# Altium integrated library Linear Technology Power Management Switching Regulator LTC1174-LTC3901.IntLib: 2647 symbols (part 210 of 364)
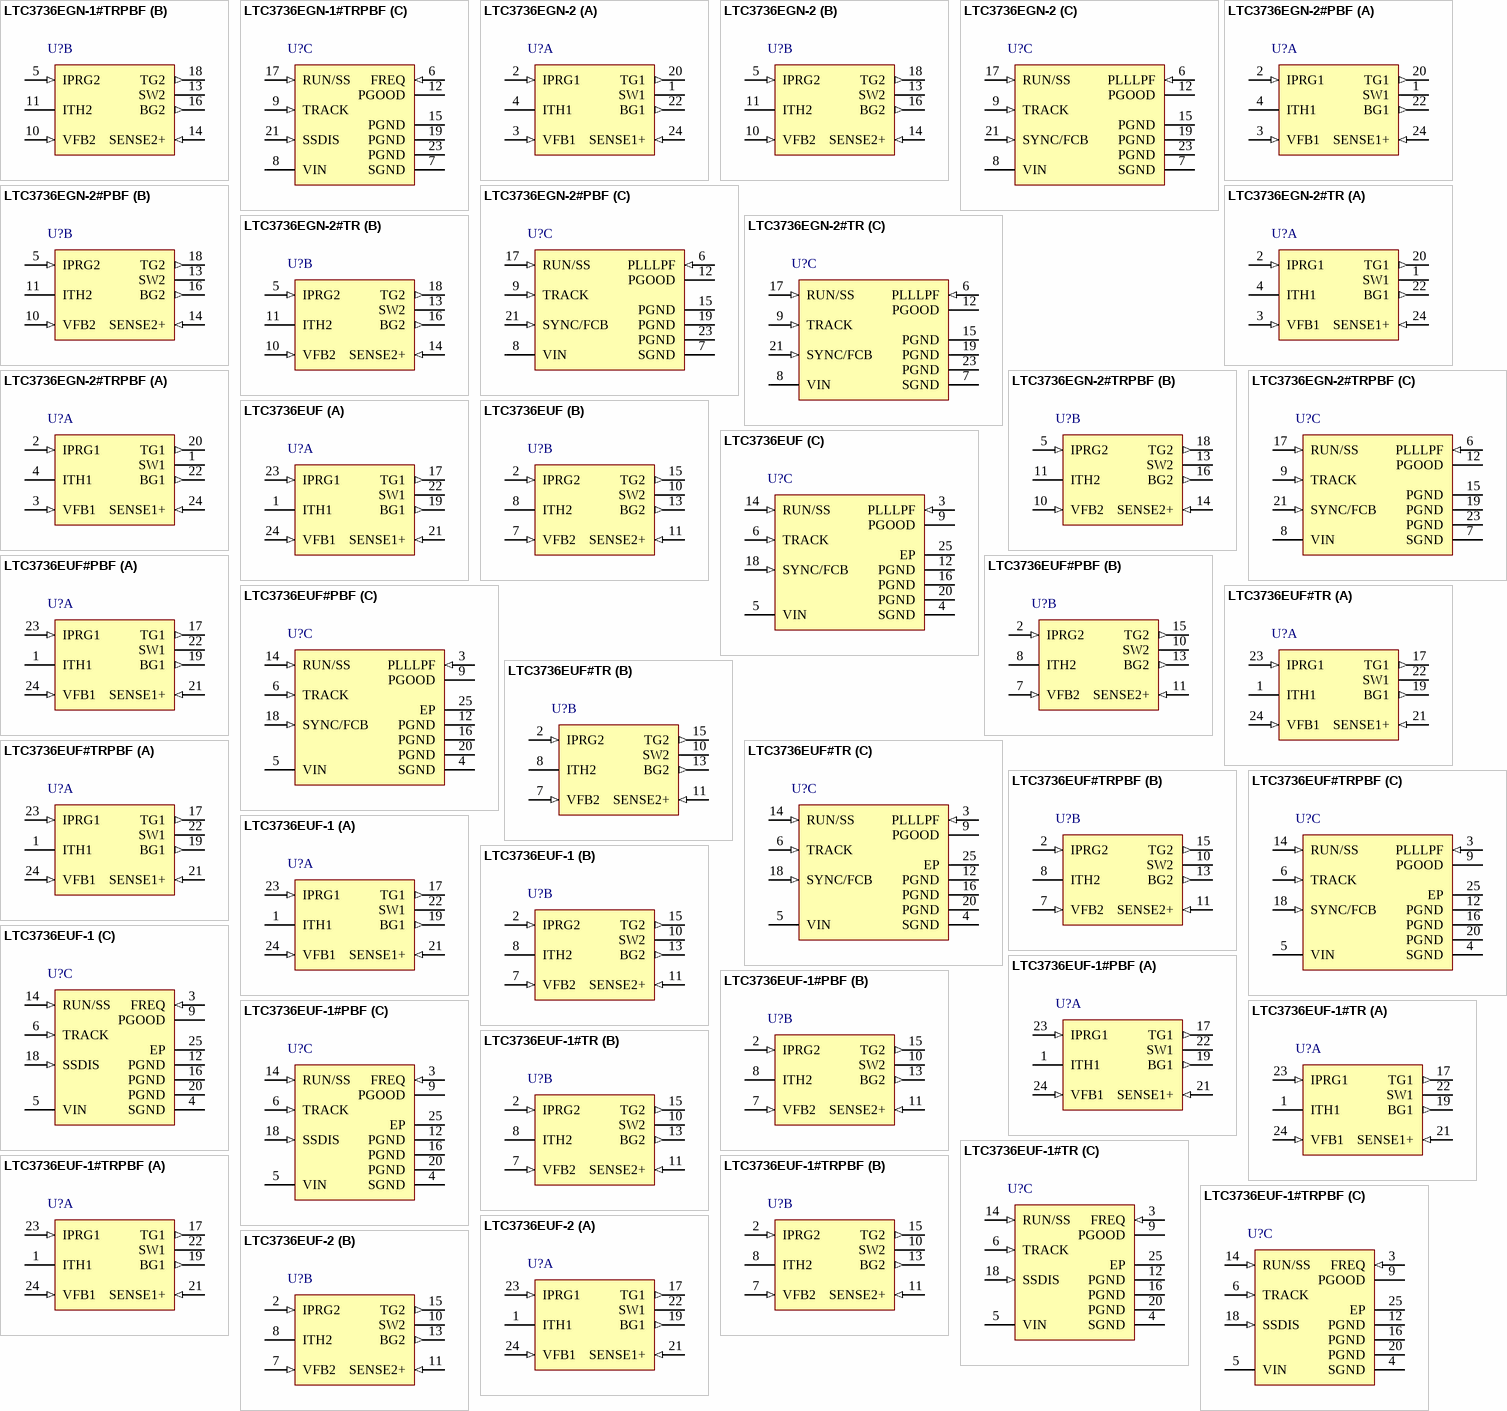
[diagram p224: symbols LTC3736EGN-1#TRPBF to LTC3736EUF-2]

## LTC3736EUF-1#TR
designator U?
Dual 2-Phase, No Rsense Synchronous Controller with Spread Spectrum, 24-pin QFN (UF24), -40 to 85 degC, Tape and Reel; Manufacturer: Linear Technology; PartNumber: LTC3736EUF-1#TR; Number of Outputs: 2; PackageVersion: Rev. B, 02/2012; PackageReference: UF24; PackageDescription: 24-Pin Plastic QFN, Body 4 x 4 mm, Pitch 0.5 mm; Supplier 1: Digi-Key; Supplier Part Number 1: LTC3736EUF-1#TR-ND; Packing: Tape and Reel; RoHS: FALSE; Mounting Technology: Surface Mount; Code_JEDEC: MO-220; ComponentLink1Description: Manufacturer URL; ComponentLink1URL: http://www.linear.com/; ComponentLink2Description: Datasheet; ComponentLink2URL: http://cds.linear.com/docs/en/datasheet/37361f.pdf; ComponentLink3Description: Package Specification; ComponentLink3URL: http://cds.linear.com/docs/en/packaging/%28UF24%29%20QFN%2005-08-1697%20Rev%20B.pdf
footprint LT-UF-24_N (QFN, 24-Leads, Body 4.1x4.1mm, Pitch 0.5mm, Thermal Pad 2.45x2.45mm, IPC Medium Density)
footprint LT-UF-24_L (QFN, 24-Leads, Body 4.1x4.1mm, Pitch 0.5mm, Thermal Pad 2.45x2.45mm, IPC High Density)
footprint LT-UF-24_M (QFN, 24-Leads, Body 4.1x4.1mm, Pitch 0.5mm, Thermal Pad 2.45x2.45mm, IPC Low Density)
part A pins: 1 ITH1 "Current Threshold and Error Amplifier Compensation Point. Nominal operating range on these pins is from 0.7V to 2V. The voltage on these pins determines the threshold of the main current comparator.", 17 TG1 (out) "Top (PMOS) Gate Drive Output. These pins drive the gates of the external P-channel MOSFETs. These pins have an output swing from PGND to SENSE+.", 19 BG1 (out) "Bottom (NMOS) Gate Drive Output. These pins drive the gates of the external N-channel MOSFETs. These pins have an output swing from PGND to SENSE+.", 21 SENSE1+ (in) "Positive Input to Differential Current Comparator. Also powers the gate drivers. Normally connected to the source of the external P-channel MOSFET.", 22 SW1 "Switch Node Connection to Inductor. Also the negative input to differential peak current comparator and an input to the reverse current comparator. Normally connected to the drain of the external P-channel MOSFETs, the drain (See Datasheet)", 23 IPRG1 (in) "Three-State Pins to Select Maximum Peak Sense Voltage Threshold. These pins select the maximum allowed voltage drop between the SENSE+ and SW pins (i.e., the maximum allowed drop across the external P-channel MOSFET) for (See Datasheet)", 24 VFB1 (in) "Feedback Pins. Receives the remotely sensed feedback voltage for its controller from an external resistor divider across the output"
part B pins: 2 IPRG2 (in) "Three-State Pins to Select Maximum Peak Sense Voltage Threshold. These pins select the maximum allowed voltage drop between the SENSE+ and SW pins (i.e., the maximum allowed drop across the external P-channel MOSFET) for (See Datasheet)", 7 VFB2 (in) "Feedback Pins. Receives the remotely sensed feedback voltage for its controller from an external resistor divider across the output", 8 ITH2 "Current Threshold and Error Amplifier Compensation Point. Nominal operating range on these pins is from 0.7V to 2V. The voltage on these pins determines the threshold of the main current comparator.", 10 SW2 "Switch Node Connection to Inductor. Also the negative input to differential peak current comparator and an input to the reverse current comparator. Normally connected to the drain of the external P-channel MOSFETs, the drain (See Datasheet)", 11 SENSE2+ (in) "Positive Input to Differential Current Comparator. Also powers the gate drivers. Normally connected to the source of the external P-channel MOSFET.", 13 BG2 (out) "Bottom (NMOS) Gate Drive Output. These pins drive the gates of the external N-channel MOSFETs. These pins have an output swing from PGND to SENSE+.", 15 TG2 (out) "Top (PMOS) Gate Drive Output. These pins drive the gates of the external P-channel MOSFETs. These pins have an output swing from PGND to SENSE+."
part C pins: 3 FREQ (in) "Frequency Filter and Adjust Pin. Normally, when spread spectrum operation is enabled (SSDIS = GND), a capacitor (1nF to 4.7nF) is connected from this pin to SGND or VIN to filter and smooth the changes in frequency of the (See Datasheet)", 4 SGND (power) "Small-Signal Ground. This pin serves as the ground connection for most internal circuits.", 5 VIN (power) "Chip Signal Power Supply. This pin powers the entire chip except for the gate drivers. Externally filtering this pin with a lowpass RC network (e.g., R = 10ohm, C = 1uF) is suggested to minimize noise pickup, especially in (See Datasheet)", 6 TRACK (in) "Tracking Input for Second Controller. Allows the start-up of VOUT2 to track that of VOUT1 according to a ratio established by a resistor divider on VOUT1 connected to the TRACK pin. For one-to-one tracking of VOUT1 and VOUT2 (See Datasheet)", 9 PGOOD (oc) "Power Good Output Voltage Monitor Open-Drain Logic Output. This pin is pulled to ground when the voltage on either feedback pin (VFB1, VFB2) is not within +/-13.3% of its nominal set point.", 12 PGND (power) "Power Ground. These pins serve as the ground connection for the gate drivers and the negative input to the reverse current comparators.", 14 RUN/SS (in) "Run Control Input and Optional External Soft-Start Input. Forcing this pin below 0.65V shuts down the chip (both channels). Driving this pin to VIN or releasing this pin enables the chip, using the chip’s interna(See Datasheet)", 16 PGND (power) "Power Ground. These pins serve as the ground connection for the gate drivers and the negative input to the reverse current comparators.", 18 SSDIS (in) "This pin performs three functions: 1) auxiliary winding feedback input, 2) external clock synchronization input for phase-locked loop, and 3) pulse-skipping operation or forced continuous mode select. For auxiliary winding (See Datasheet)", 20 PGND (power) "Power Ground. These pins serve as the ground connection for the gate drivers and the negative input to the reverse current comparators.", 25 EP (power) "The Exposed Pad must be soldered to PCB ground."

## LTC3736EUF-1#TRPBF
designator U?
Dual 2-Phase, No Rsense Synchronous Controller with Spread Spectrum, 24-pin QFN (UF24), -40 to 85 degC, Pb-Free, Tape and Reel; Manufacturer: Linear Technology; PartNumber: LTC3736EUF-1#TRPBF; Number of Outputs: 2; PackageVersion: Rev. B, 02/2012; PackageReference: UF24; PackageDescription: 24-Pin Plastic QFN, Body 4 x 4 mm, Pitch 0.5 mm; Supplier 1: Digi-Key; Supplier Part Number 1: LTC3736EUF-1#TRPBF-ND; Packing: Tape and Reel; RoHS: TRUE; Mounting Technology: Surface Mount; Code_JEDEC: MO-220; ComponentLink1Description: Manufacturer URL; ComponentLink1URL: http://www.linear.com/; ComponentLink2Description: Datasheet; ComponentLink2URL: http://cds.linear.com/docs/en/datasheet/37361f.pdf; ComponentLink3Description: Package Specification; ComponentLink3URL: http://cds.linear.com/docs/en/packaging/%28UF24%29%20QFN%2005-08-1697%20Rev%20B.pdf
footprint LT-UF-24_N (QFN, 24-Leads, Body 4.1x4.1mm, Pitch 0.5mm, Thermal Pad 2.45x2.45mm, IPC Medium Density)
footprint LT-UF-24_L (QFN, 24-Leads, Body 4.1x4.1mm, Pitch 0.5mm, Thermal Pad 2.45x2.45mm, IPC High Density)
footprint LT-UF-24_M (QFN, 24-Leads, Body 4.1x4.1mm, Pitch 0.5mm, Thermal Pad 2.45x2.45mm, IPC Low Density)
part A pins: 1 ITH1 "Current Threshold and Error Amplifier Compensation Point. Nominal operating range on these pins is from 0.7V to 2V. The voltage on these pins determines the threshold of the main current comparator.", 17 TG1 (out) "Top (PMOS) Gate Drive Output. These pins drive the gates of the external P-channel MOSFETs. These pins have an output swing from PGND to SENSE+.", 19 BG1 (out) "Bottom (NMOS) Gate Drive Output. These pins drive the gates of the external N-channel MOSFETs. These pins have an output swing from PGND to SENSE+.", 21 SENSE1+ (in) "Positive Input to Differential Current Comparator. Also powers the gate drivers. Normally connected to the source of the external P-channel MOSFET.", 22 SW1 "Switch Node Connection to Inductor. Also the negative input to differential peak current comparator and an input to the reverse current comparator. Normally connected to the drain of the external P-channel MOSFETs, the drain (See Datasheet)", 23 IPRG1 (in) "Three-State Pins to Select Maximum Peak Sense Voltage Threshold. These pins select the maximum allowed voltage drop between the SENSE+ and SW pins (i.e., the maximum allowed drop across the external P-channel MOSFET) for (See Datasheet)", 24 VFB1 (in) "Feedback Pins. Receives the remotely sensed feedback voltage for its controller from an external resistor divider across the output"
part B pins: 2 IPRG2 (in) "Three-State Pins to Select Maximum Peak Sense Voltage Threshold. These pins select the maximum allowed voltage drop between the SENSE+ and SW pins (i.e., the maximum allowed drop across the external P-channel MOSFET) for (See Datasheet)", 7 VFB2 (in) "Feedback Pins. Receives the remotely sensed feedback voltage for its controller from an external resistor divider across the output", 8 ITH2 "Current Threshold and Error Amplifier Compensation Point. Nominal operating range on these pins is from 0.7V to 2V. The voltage on these pins determines the threshold of the main current comparator.", 10 SW2 "Switch Node Connection to Inductor. Also the negative input to differential peak current comparator and an input to the reverse current comparator. Normally connected to the drain of the external P-channel MOSFETs, the drain (See Datasheet)", 11 SENSE2+ (in) "Positive Input to Differential Current Comparator. Also powers the gate drivers. Normally connected to the source of the external P-channel MOSFET.", 13 BG2 (out) "Bottom (NMOS) Gate Drive Output. These pins drive the gates of the external N-channel MOSFETs. These pins have an output swing from PGND to SENSE+.", 15 TG2 (out) "Top (PMOS) Gate Drive Output. These pins drive the gates of the external P-channel MOSFETs. These pins have an output swing from PGND to SENSE+."
part C pins: 3 FREQ (in) "Frequency Filter and Adjust Pin. Normally, when spread spectrum operation is enabled (SSDIS = GND), a capacitor (1nF to 4.7nF) is connected from this pin to SGND or VIN to filter and smooth the changes in frequency of the (See Datasheet)", 4 SGND (power) "Small-Signal Ground. This pin serves as the ground connection for most internal circuits.", 5 VIN (power) "Chip Signal Power Supply. This pin powers the entire chip except for the gate drivers. Externally filtering this pin with a lowpass RC network (e.g., R = 10ohm, C = 1uF) is suggested to minimize noise pickup, especially in (See Datasheet)", 6 TRACK (in) "Tracking Input for Second Controller. Allows the start-up of VOUT2 to track that of VOUT1 according to a ratio established by a resistor divider on VOUT1 connected to the TRACK pin. For one-to-one tracking of VOUT1 and VOUT2 (See Datasheet)", 9 PGOOD (oc) "Power Good Output Voltage Monitor Open-Drain Logic Output. This pin is pulled to ground when the voltage on either feedback pin (VFB1, VFB2) is not within +/-13.3% of its nominal set point.", 12 PGND (power) "Power Ground. These pins serve as the ground connection for the gate drivers and the negative input to the reverse current comparators.", 14 RUN/SS (in) "Run Control Input and Optional External Soft-Start Input. Forcing this pin below 0.65V shuts down the chip (both channels). Driving this pin to VIN or releasing this pin enables the chip, using the chip’s interna(See Datasheet)", 16 PGND (power) "Power Ground. These pins serve as the ground connection for the gate drivers and the negative input to the reverse current comparators.", 18 SSDIS (in) "This pin performs three functions: 1) auxiliary winding feedback input, 2) external clock synchronization input for phase-locked loop, and 3) pulse-skipping operation or forced continuous mode select. For auxiliary winding (See Datasheet)", 20 PGND (power) "Power Ground. These pins serve as the ground connection for the gate drivers and the negative input to the reverse current comparators.", 25 EP (power) "The Exposed Pad must be soldered to PCB ground."

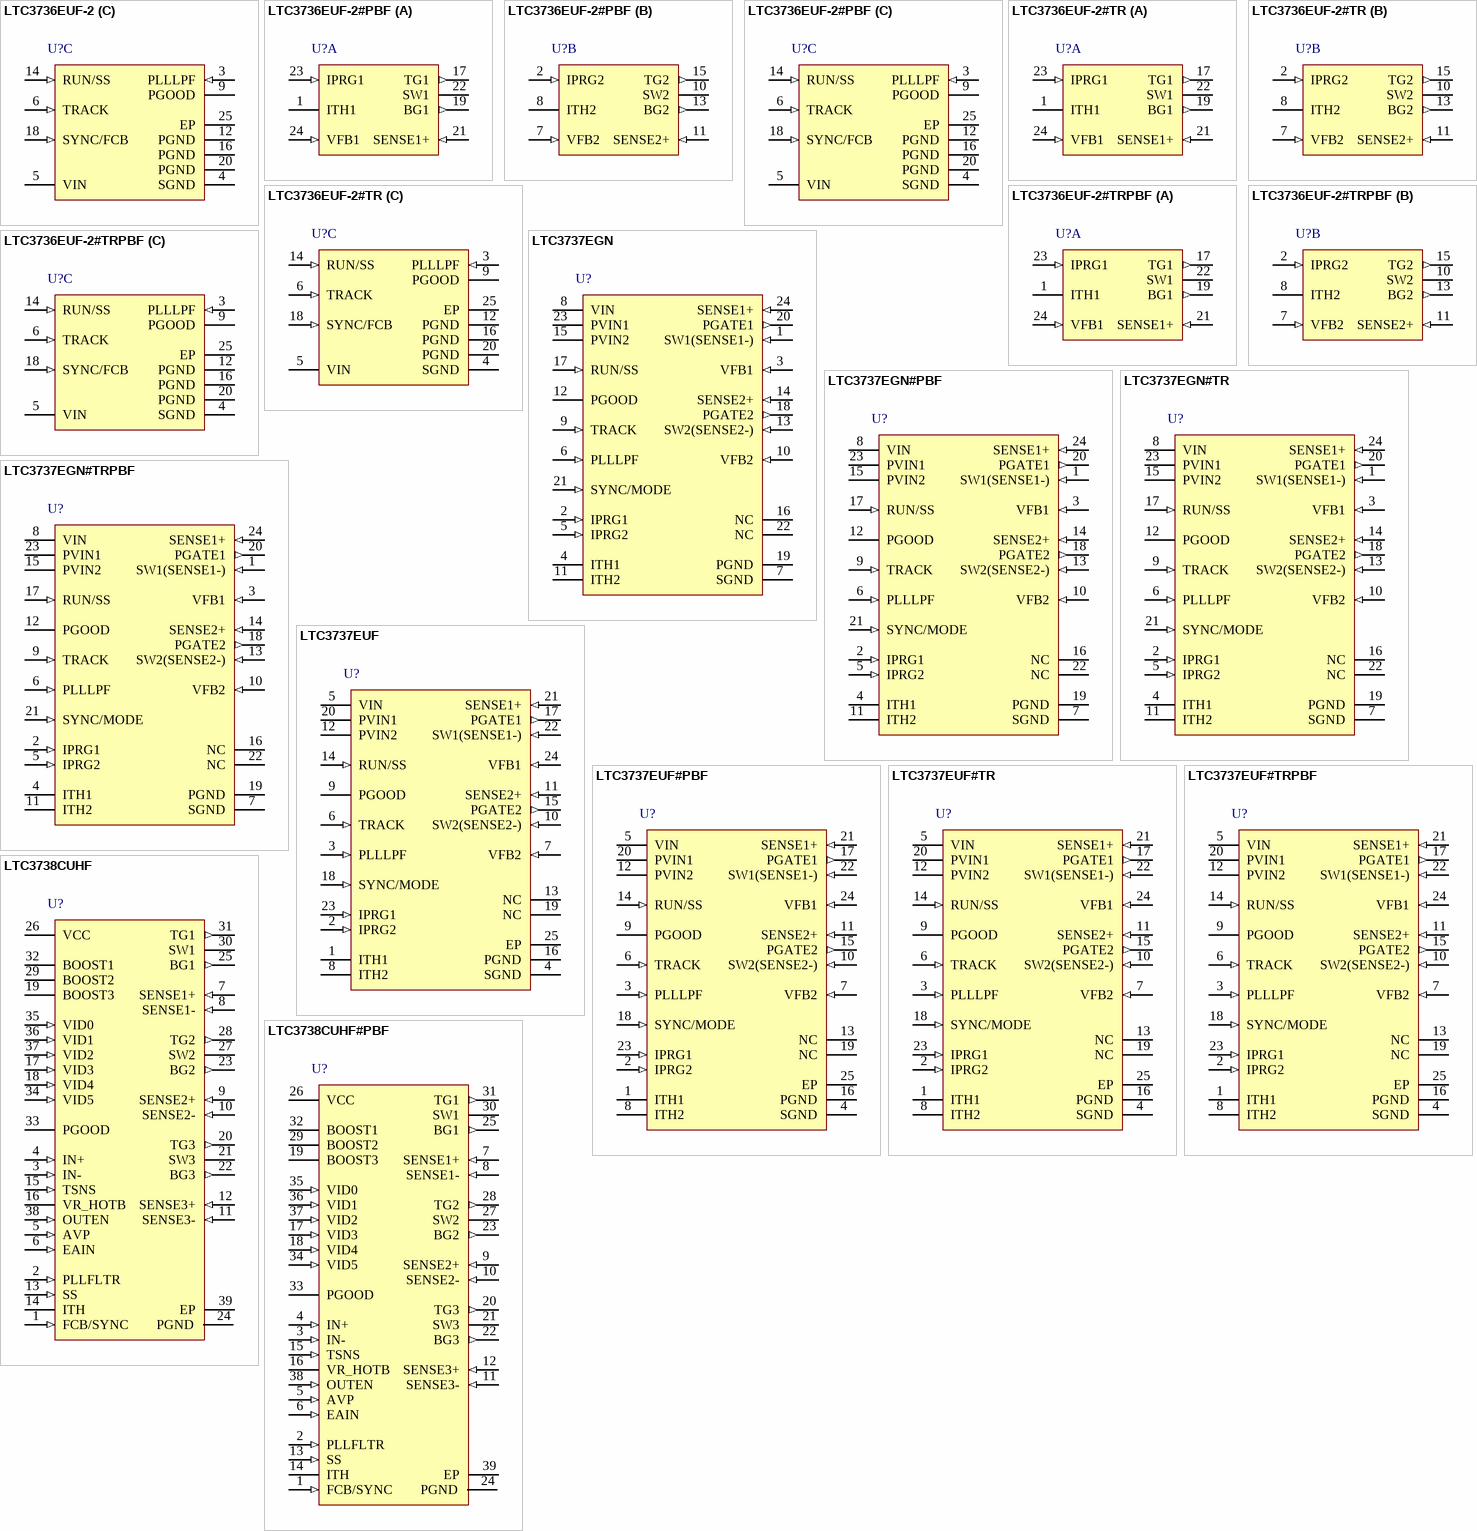
[diagram p66: symbols LTC3736EUF-2 to LTC3738CUHF#PBF]

## LTC3736EUF-2
designator U?
Dual 2-Phase, No Rsense Synchronous Controller with Output Tracking, 24-pin QFN (UF24), -40 to 85 degC; Manufacturer: Linear Technology; PartNumber: LTC3736EUF-2; Frequency Sync Range: 250kHz - 850kHz; Number of Outputs: 2; DatasheetVersion: Rev. B; PackageVersion: Rev. B, 02/2012; PackageReference: UF24; PackageDescription: 24-Pin Plastic QFN, Body 4 x 4 mm, Pitch 0.5 mm; RoHS: FALSE; Mounting Technology: Surface Mount; Code_JEDEC: MO-220; ComponentLink1Description: Manufacturer URL; ComponentLink1URL: http://www.linear.com/; ComponentLink2Description: Datasheet; ComponentLink2URL: http://cds.linear.com/docs/en/datasheet/37362fb.pdf; ComponentLink3Description: Package Specification; ComponentLink3URL: http://cds.linear.com/docs/en/packaging/%28UF24%29%20QFN%2005-08-1697%20Rev%20B.pdf
footprint LT-UF-24_N (QFN, 24-Leads, Body 4.1x4.1mm, Pitch 0.5mm, Thermal Pad 2.45x2.45mm, IPC Medium Density)
footprint LT-UF-24_L (QFN, 24-Leads, Body 4.1x4.1mm, Pitch 0.5mm, Thermal Pad 2.45x2.45mm, IPC High Density)
footprint LT-UF-24_M (QFN, 24-Leads, Body 4.1x4.1mm, Pitch 0.5mm, Thermal Pad 2.45x2.45mm, IPC Low Density)
part A pins: 1 ITH1 "Current Threshold and Error Amplifier Compensation Point. Nominal operating range on these pins is from 0.7V to 2V. The voltage on these pins determines the threshold of the main current comparator.", 17 TG1 (out) "Top (PMOS) Gate Drive Output. These pins drive the gates of the external P-channel MOSFETs. These pins have an output swing from PGND to SENSE+.", 19 BG1 (out) "Bottom (NMOS) Gate Drive Output. These pins drive the gates of the external N-channel MOSFETs. These pins have an output swing from PGND to SENSE+.", 21 SENSE1+ (in) "Positive Input to Differential Current Comparator. Also powers the gate drivers. Normally connected to the source of the external P-channel MOSFET.", 22 SW1 "Switch Node Connection to Inductor. Also the negative input to differential peak current comparator and an input to the reverse current comparator. Normally connected to the drain of the external P-channel MOSFETs, the drain (See Datasheet)", 23 IPRG1 (in) "Three-State Pins to Select Maximum Peak Sense Voltage Threshold. These pins select the maximum allowed voltage drop between the SENSE+ and SW pins (i.e., the maximum allowed drop across the external P-channel MOSFET) for (See Datasheet)", 24 VFB1 (in) "Feedback Pins. Receives the remotely sensed feedback voltage for its controller from an external resistor divider across the output"
part B pins: 2 IPRG2 (in) "Three-State Pins to Select Maximum Peak Sense Voltage Threshold. These pins select the maximum allowed voltage drop between the SENSE+ and SW pins (i.e., the maximum allowed drop across the external P-channel MOSFET) for (See Datasheet)", 7 VFB2 (in) "Feedback Pins. Receives the remotely sensed feedback voltage for its controller from an external resistor divider across the output", 8 ITH2 "Current Threshold and Error Amplifier Compensation Point. Nominal operating range on these pins is from 0.7V to 2V. The voltage on these pins determines the threshold of the main current comparator.", 10 SW2 "Switch Node Connection to Inductor. Also the negative input to differential peak current comparator and an input to the reverse current comparator. Normally connected to the drain of the external P-channel MOSFETs, the drain (See Datasheet)", 11 SENSE2+ (in) "Positive Input to Differential Current Comparator. Also powers the gate drivers. Normally connected to the source of the external P-channel MOSFET.", 13 BG2 (out) "Bottom (NMOS) Gate Drive Output. These pins drive the gates of the external N-channel MOSFETs. These pins have an output swing from PGND to SENSE+.", 15 TG2 (out) "Top (PMOS) Gate Drive Output. These pins drive the gates of the external P-channel MOSFETs. These pins have an output swing from PGND to SENSE+."
part C pins: 3 PLLLPF (in) "Frequency Set/PLL Lowpass Filter. When synchronizing to an external clock, this pin serves as the lowpass filter point for the phase-locked loop. Normally a series RC is connected between this pin and ground.  When not (See Datasheet)", 4 SGND (power) "Small-Signal Ground. This pin serves as the ground connection for most internal circuits.", 5 VIN (power) "Chip Signal Power Supply. This pin powers the entire chip except for the gate drivers. Externally filtering this pin with a lowpass RC network (e.g., R = 10ohm, C = 1uF) is suggested to minimize noise pickup, especially in (See Datasheet)", 6 TRACK (in) "Tracking Input for Second Controller. Allows the start-up of VOUT2 to track that of VOUT1 according to a ratio established by a resistor divider on VOUT1 connected to the TRACK pin. For one-to-one tracking of VOUT1 and VOUT2 (See Datasheet)", 9 PGOOD (oc) "Power Good Output Voltage Monitor Open-Drain Logic Output. This pin is pulled to ground when the voltage on either feedback pin (VFB1, VFB2) is not within +/-13.3% of its nominal set point.", 12 PGND (power) "Power Ground. These pins serve as the ground connection for the gate drivers and the negative input to the reverse current comparators.", 14 RUN/SS (in) "Run Control Input and Optional External Soft-Start Input. Forcing this pin below 0.65V shuts down the chip (both channels). Driving this pin to VIN or releasing this pin enables the chip, using the chip’s interna(See Datasheet)", 16 PGND (power) "Power Ground. These pins serve as the ground connection for the gate drivers and the negative input to the reverse current comparators.", 18 SYNC/FCB (in) "This pin performs three functions: 1) auxiliary winding feedback input, 2) external clock synchronization input for phase-locked loop, and 3) pulse-skipping operation or forced continuous mode select. For auxiliary winding (See Datasheet)", 20 PGND (power) "Power Ground. These pins serve as the ground connection for the gate drivers and the negative input to the reverse current comparators.", 25 EP (power) "The Exposed Pad must be soldered to PCB ground."

## LTC3736EUF-2#PBF
designator U?
Dual 2-Phase, No Rsense Synchronous Controller with Output Tracking, 24-pin QFN (UF24), -40 to 85 degC, Pb-Free; Manufacturer: Linear Technology; PartNumber: LTC3736EUF-2#PBF; Frequency Sync Range: 250kHz - 850kHz; Number of Outputs: 2; DatasheetVersion: Rev. B; PackageVersion: Rev. B, 02/2012; PackageReference: UF24; PackageDescription: 24-Pin Plastic QFN, Body 4 x 4 mm, Pitch 0.5 mm; Supplier 1: Digi-Key; Supplier Part Number 1: LTC3736EUF-2#PBF-ND; RoHS: TRUE; Mounting Technology: Surface Mount; Code_JEDEC: MO-220; ComponentLink1Description: Manufacturer URL; ComponentLink1URL: http://www.linear.com/; ComponentLink2Description: Datasheet; ComponentLink2URL: http://cds.linear.com/docs/en/datasheet/37362fb.pdf; ComponentLink3Description: Package Specification; ComponentLink3URL: http://cds.linear.com/docs/en/packaging/%28UF24%29%20QFN%2005-08-1697%20Rev%20B.pdf
footprint LT-UF-24_N (QFN, 24-Leads, Body 4.1x4.1mm, Pitch 0.5mm, Thermal Pad 2.45x2.45mm, IPC Medium Density)
footprint LT-UF-24_L (QFN, 24-Leads, Body 4.1x4.1mm, Pitch 0.5mm, Thermal Pad 2.45x2.45mm, IPC High Density)
footprint LT-UF-24_M (QFN, 24-Leads, Body 4.1x4.1mm, Pitch 0.5mm, Thermal Pad 2.45x2.45mm, IPC Low Density)
part A pins: 1 ITH1 "Current Threshold and Error Amplifier Compensation Point. Nominal operating range on these pins is from 0.7V to 2V. The voltage on these pins determines the threshold of the main current comparator.", 17 TG1 (out) "Top (PMOS) Gate Drive Output. These pins drive the gates of the external P-channel MOSFETs. These pins have an output swing from PGND to SENSE+.", 19 BG1 (out) "Bottom (NMOS) Gate Drive Output. These pins drive the gates of the external N-channel MOSFETs. These pins have an output swing from PGND to SENSE+.", 21 SENSE1+ (in) "Positive Input to Differential Current Comparator. Also powers the gate drivers. Normally connected to the source of the external P-channel MOSFET.", 22 SW1 "Switch Node Connection to Inductor. Also the negative input to differential peak current comparator and an input to the reverse current comparator. Normally connected to the drain of the external P-channel MOSFETs, the drain (See Datasheet)", 23 IPRG1 (in) "Three-State Pins to Select Maximum Peak Sense Voltage Threshold. These pins select the maximum allowed voltage drop between the SENSE+ and SW pins (i.e., the maximum allowed drop across the external P-channel MOSFET) for (See Datasheet)", 24 VFB1 (in) "Feedback Pins. Receives the remotely sensed feedback voltage for its controller from an external resistor divider across the output"
part B pins: 2 IPRG2 (in) "Three-State Pins to Select Maximum Peak Sense Voltage Threshold. These pins select the maximum allowed voltage drop between the SENSE+ and SW pins (i.e., the maximum allowed drop across the external P-channel MOSFET) for (See Datasheet)", 7 VFB2 (in) "Feedback Pins. Receives the remotely sensed feedback voltage for its controller from an external resistor divider across the output", 8 ITH2 "Current Threshold and Error Amplifier Compensation Point. Nominal operating range on these pins is from 0.7V to 2V. The voltage on these pins determines the threshold of the main current comparator.", 10 SW2 "Switch Node Connection to Inductor. Also the negative input to differential peak current comparator and an input to the reverse current comparator. Normally connected to the drain of the external P-channel MOSFETs, the drain (See Datasheet)", 11 SENSE2+ (in) "Positive Input to Differential Current Comparator. Also powers the gate drivers. Normally connected to the source of the external P-channel MOSFET.", 13 BG2 (out) "Bottom (NMOS) Gate Drive Output. These pins drive the gates of the external N-channel MOSFETs. These pins have an output swing from PGND to SENSE+.", 15 TG2 (out) "Top (PMOS) Gate Drive Output. These pins drive the gates of the external P-channel MOSFETs. These pins have an output swing from PGND to SENSE+."
part C pins: 3 PLLLPF (in) "Frequency Set/PLL Lowpass Filter. When synchronizing to an external clock, this pin serves as the lowpass filter point for the phase-locked loop. Normally a series RC is connected between this pin and ground.  When not (See Datasheet)", 4 SGND (power) "Small-Signal Ground. This pin serves as the ground connection for most internal circuits.", 5 VIN (power) "Chip Signal Power Supply. This pin powers the entire chip except for the gate drivers. Externally filtering this pin with a lowpass RC network (e.g., R = 10ohm, C = 1uF) is suggested to minimize noise pickup, especially in (See Datasheet)", 6 TRACK (in) "Tracking Input for Second Controller. Allows the start-up of VOUT2 to track that of VOUT1 according to a ratio established by a resistor divider on VOUT1 connected to the TRACK pin. For one-to-one tracking of VOUT1 and VOUT2 (See Datasheet)", 9 PGOOD (oc) "Power Good Output Voltage Monitor Open-Drain Logic Output. This pin is pulled to ground when the voltage on either feedback pin (VFB1, VFB2) is not within +/-13.3% of its nominal set point.", 12 PGND (power) "Power Ground. These pins serve as the ground connection for the gate drivers and the negative input to the reverse current comparators.", 14 RUN/SS (in) "Run Control Input and Optional External Soft-Start Input. Forcing this pin below 0.65V shuts down the chip (both channels). Driving this pin to VIN or releasing this pin enables the chip, using the chip’s interna(See Datasheet)", 16 PGND (power) "Power Ground. These pins serve as the ground connection for the gate drivers and the negative input to the reverse current comparators.", 18 SYNC/FCB (in) "This pin performs three functions: 1) auxiliary winding feedback input, 2) external clock synchronization input for phase-locked loop, and 3) pulse-skipping operation or forced continuous mode select. For auxiliary winding (See Datasheet)", 20 PGND (power) "Power Ground. These pins serve as the ground connection for the gate drivers and the negative input to the reverse current comparators.", 25 EP (power) "The Exposed Pad must be soldered to PCB ground."

## LTC3736EUF-2#TR
designator U?
Dual 2-Phase, No Rsense Synchronous Controller with Output Tracking, 24-pin QFN (UF24), -40 to 85 degC, Tape and Reel; Manufacturer: Linear Technology; PartNumber: LTC3736EUF-2#TR; Frequency Sync Range: 250kHz - 850kHz; Number of Outputs: 2; DatasheetVersion: Rev. B; PackageVersion: Rev. B, 02/2012; PackageReference: UF24; PackageDescription: 24-Pin Plastic QFN, Body 4 x 4 mm, Pitch 0.5 mm; Packing: Tape and Reel; RoHS: FALSE; Mounting Technology: Surface Mount; Code_JEDEC: MO-220; ComponentLink1Description: Manufacturer URL; ComponentLink1URL: http://www.linear.com/; ComponentLink2Description: Datasheet; ComponentLink2URL: http://cds.linear.com/docs/en/datasheet/37362fb.pdf; ComponentLink3Description: Package Specification; ComponentLink3URL: http://cds.linear.com/docs/en/packaging/%28UF24%29%20QFN%2005-08-1697%20Rev%20B.pdf
footprint LT-UF-24_N (QFN, 24-Leads, Body 4.1x4.1mm, Pitch 0.5mm, Thermal Pad 2.45x2.45mm, IPC Medium Density)
footprint LT-UF-24_L (QFN, 24-Leads, Body 4.1x4.1mm, Pitch 0.5mm, Thermal Pad 2.45x2.45mm, IPC High Density)
footprint LT-UF-24_M (QFN, 24-Leads, Body 4.1x4.1mm, Pitch 0.5mm, Thermal Pad 2.45x2.45mm, IPC Low Density)
part A pins: 1 ITH1 "Current Threshold and Error Amplifier Compensation Point. Nominal operating range on these pins is from 0.7V to 2V. The voltage on these pins determines the threshold of the main current comparator.", 17 TG1 (out) "Top (PMOS) Gate Drive Output. These pins drive the gates of the external P-channel MOSFETs. These pins have an output swing from PGND to SENSE+.", 19 BG1 (out) "Bottom (NMOS) Gate Drive Output. These pins drive the gates of the external N-channel MOSFETs. These pins have an output swing from PGND to SENSE+.", 21 SENSE1+ (in) "Positive Input to Differential Current Comparator. Also powers the gate drivers. Normally connected to the source of the external P-channel MOSFET.", 22 SW1 "Switch Node Connection to Inductor. Also the negative input to differential peak current comparator and an input to the reverse current comparator. Normally connected to the drain of the external P-channel MOSFETs, the drain (See Datasheet)", 23 IPRG1 (in) "Three-State Pins to Select Maximum Peak Sense Voltage Threshold. These pins select the maximum allowed voltage drop between the SENSE+ and SW pins (i.e., the maximum allowed drop across the external P-channel MOSFET) for (See Datasheet)", 24 VFB1 (in) "Feedback Pins. Receives the remotely sensed feedback voltage for its controller from an external resistor divider across the output"
part B pins: 2 IPRG2 (in) "Three-State Pins to Select Maximum Peak Sense Voltage Threshold. These pins select the maximum allowed voltage drop between the SENSE+ and SW pins (i.e., the maximum allowed drop across the external P-channel MOSFET) for (See Datasheet)", 7 VFB2 (in) "Feedback Pins. Receives the remotely sensed feedback voltage for its controller from an external resistor divider across the output", 8 ITH2 "Current Threshold and Error Amplifier Compensation Point. Nominal operating range on these pins is from 0.7V to 2V. The voltage on these pins determines the threshold of the main current comparator.", 10 SW2 "Switch Node Connection to Inductor. Also the negative input to differential peak current comparator and an input to the reverse current comparator. Normally connected to the drain of the external P-channel MOSFETs, the drain (See Datasheet)", 11 SENSE2+ (in) "Positive Input to Differential Current Comparator. Also powers the gate drivers. Normally connected to the source of the external P-channel MOSFET.", 13 BG2 (out) "Bottom (NMOS) Gate Drive Output. These pins drive the gates of the external N-channel MOSFETs. These pins have an output swing from PGND to SENSE+.", 15 TG2 (out) "Top (PMOS) Gate Drive Output. These pins drive the gates of the external P-channel MOSFETs. These pins have an output swing from PGND to SENSE+."
part C pins: 3 PLLLPF (in) "Frequency Set/PLL Lowpass Filter. When synchronizing to an external clock, this pin serves as the lowpass filter point for the phase-locked loop. Normally a series RC is connected between this pin and ground.  When not (See Datasheet)", 4 SGND (power) "Small-Signal Ground. This pin serves as the ground connection for most internal circuits.", 5 VIN (power) "Chip Signal Power Supply. This pin powers the entire chip except for the gate drivers. Externally filtering this pin with a lowpass RC network (e.g., R = 10ohm, C = 1uF) is suggested to minimize noise pickup, especially in (See Datasheet)", 6 TRACK (in) "Tracking Input for Second Controller. Allows the start-up of VOUT2 to track that of VOUT1 according to a ratio established by a resistor divider on VOUT1 connected to the TRACK pin. For one-to-one tracking of VOUT1 and VOUT2 (See Datasheet)", 9 PGOOD (oc) "Power Good Output Voltage Monitor Open-Drain Logic Output. This pin is pulled to ground when the voltage on either feedback pin (VFB1, VFB2) is not within +/-13.3% of its nominal set point.", 12 PGND (power) "Power Ground. These pins serve as the ground connection for the gate drivers and the negative input to the reverse current comparators.", 14 RUN/SS (in) "Run Control Input and Optional External Soft-Start Input. Forcing this pin below 0.65V shuts down the chip (both channels). Driving this pin to VIN or releasing this pin enables the chip, using the chip’s interna(See Datasheet)", 16 PGND (power) "Power Ground. These pins serve as the ground connection for the gate drivers and the negative input to the reverse current comparators.", 18 SYNC/FCB (in) "This pin performs three functions: 1) auxiliary winding feedback input, 2) external clock synchronization input for phase-locked loop, and 3) pulse-skipping operation or forced continuous mode select. For auxiliary winding (See Datasheet)", 20 PGND (power) "Power Ground. These pins serve as the ground connection for the gate drivers and the negative input to the reverse current comparators.", 25 EP (power) "The Exposed Pad must be soldered to PCB ground."

## LTC3736EUF-2#TRPBF
designator U?
Dual 2-Phase, No Rsense Synchronous Controller with Output Tracking, 24-pin QFN (UF24), -40 to 85 degC, Pb-Free, Tape and Reel; Manufacturer: Linear Technology; PartNumber: LTC3736EUF-2#TRPBF; Frequency Sync Range: 250kHz - 850kHz; Number of Outputs: 2; DatasheetVersion: Rev. B; PackageVersion: Rev. B, 02/2012; PackageReference: UF24; PackageDescription: 24-Pin Plastic QFN, Body 4 x 4 mm, Pitch 0.5 mm; Supplier 1: Digi-Key; Supplier Part Number 1: LTC3736EUF-2#TRPBF-ND; Packing: Tape and Reel; RoHS: TRUE; Mounting Technology: Surface Mount; Code_JEDEC: MO-220; ComponentLink1Description: Manufacturer URL; ComponentLink1URL: http://www.linear.com/; ComponentLink2Description: Datasheet; ComponentLink2URL: http://cds.linear.com/docs/en/datasheet/37362fb.pdf; ComponentLink3Description: Package Specification; ComponentLink3URL: http://cds.linear.com/docs/en/packaging/%28UF24%29%20QFN%2005-08-1697%20Rev%20B.pdf
footprint LT-UF-24_N (QFN, 24-Leads, Body 4.1x4.1mm, Pitch 0.5mm, Thermal Pad 2.45x2.45mm, IPC Medium Density)
footprint LT-UF-24_L (QFN, 24-Leads, Body 4.1x4.1mm, Pitch 0.5mm, Thermal Pad 2.45x2.45mm, IPC High Density)
footprint LT-UF-24_M (QFN, 24-Leads, Body 4.1x4.1mm, Pitch 0.5mm, Thermal Pad 2.45x2.45mm, IPC Low Density)
part A pins: 1 ITH1 "Current Threshold and Error Amplifier Compensation Point. Nominal operating range on these pins is from 0.7V to 2V. The voltage on these pins determines the threshold of the main current comparator.", 17 TG1 (out) "Top (PMOS) Gate Drive Output. These pins drive the gates of the external P-channel MOSFETs. These pins have an output swing from PGND to SENSE+.", 19 BG1 (out) "Bottom (NMOS) Gate Drive Output. These pins drive the gates of the external N-channel MOSFETs. These pins have an output swing from PGND to SENSE+.", 21 SENSE1+ (in) "Positive Input to Differential Current Comparator. Also powers the gate drivers. Normally connected to the source of the external P-channel MOSFET.", 22 SW1 "Switch Node Connection to Inductor. Also the negative input to differential peak current comparator and an input to the reverse current comparator. Normally connected to the drain of the external P-channel MOSFETs, the drain (See Datasheet)", 23 IPRG1 (in) "Three-State Pins to Select Maximum Peak Sense Voltage Threshold. These pins select the maximum allowed voltage drop between the SENSE+ and SW pins (i.e., the maximum allowed drop across the external P-channel MOSFET) for (See Datasheet)", 24 VFB1 (in) "Feedback Pins. Receives the remotely sensed feedback voltage for its controller from an external resistor divider across the output"
part B pins: 2 IPRG2 (in) "Three-State Pins to Select Maximum Peak Sense Voltage Threshold. These pins select the maximum allowed voltage drop between the SENSE+ and SW pins (i.e., the maximum allowed drop across the external P-channel MOSFET) for (See Datasheet)", 7 VFB2 (in) "Feedback Pins. Receives the remotely sensed feedback voltage for its controller from an external resistor divider across the output", 8 ITH2 "Current Threshold and Error Amplifier Compensation Point. Nominal operating range on these pins is from 0.7V to 2V. The voltage on these pins determines the threshold of the main current comparator.", 10 SW2 "Switch Node Connection to Inductor. Also the negative input to differential peak current comparator and an input to the reverse current comparator. Normally connected to the drain of the external P-channel MOSFETs, the drain (See Datasheet)", 11 SENSE2+ (in) "Positive Input to Differential Current Comparator. Also powers the gate drivers. Normally connected to the source of the external P-channel MOSFET.", 13 BG2 (out) "Bottom (NMOS) Gate Drive Output. These pins drive the gates of the external N-channel MOSFETs. These pins have an output swing from PGND to SENSE+.", 15 TG2 (out) "Top (PMOS) Gate Drive Output. These pins drive the gates of the external P-channel MOSFETs. These pins have an output swing from PGND to SENSE+."
part C pins: 3 PLLLPF (in) "Frequency Set/PLL Lowpass Filter. When synchronizing to an external clock, this pin serves as the lowpass filter point for the phase-locked loop. Normally a series RC is connected between this pin and ground.  When not (See Datasheet)", 4 SGND (power) "Small-Signal Ground. This pin serves as the ground connection for most internal circuits.", 5 VIN (power) "Chip Signal Power Supply. This pin powers the entire chip except for the gate drivers. Externally filtering this pin with a lowpass RC network (e.g., R = 10ohm, C = 1uF) is suggested to minimize noise pickup, especially in (See Datasheet)", 6 TRACK (in) "Tracking Input for Second Controller. Allows the start-up of VOUT2 to track that of VOUT1 according to a ratio established by a resistor divider on VOUT1 connected to the TRACK pin. For one-to-one tracking of VOUT1 and VOUT2 (See Datasheet)", 9 PGOOD (oc) "Power Good Output Voltage Monitor Open-Drain Logic Output. This pin is pulled to ground when the voltage on either feedback pin (VFB1, VFB2) is not within +/-13.3% of its nominal set point.", 12 PGND (power) "Power Ground. These pins serve as the ground connection for the gate drivers and the negative input to the reverse current comparators.", 14 RUN/SS (in) "Run Control Input and Optional External Soft-Start Input. Forcing this pin below 0.65V shuts down the chip (both channels). Driving this pin to VIN or releasing this pin enables the chip, using the chip’s interna(See Datasheet)", 16 PGND (power) "Power Ground. These pins serve as the ground connection for the gate drivers and the negative input to the reverse current comparators.", 18 SYNC/FCB (in) "This pin performs three functions: 1) auxiliary winding feedback input, 2) external clock synchronization input for phase-locked loop, and 3) pulse-skipping operation or forced continuous mode select. For auxiliary winding (See Datasheet)", 20 PGND (power) "Power Ground. These pins serve as the ground connection for the gate drivers and the negative input to the reverse current comparators.", 25 EP (power) "The Exposed Pad must be soldered to PCB ground."

## LTC3737EGN
designator U?
Dual 2-Phase, No Rsense DC/DC Controller with Output Tracking, 24-pin QFN (UF-24), 24-pin SOP (GN-24), -40 to 85 degC; Manufacturer: Linear Technology; PartNumber: LTC3737EGN; Frequency Sync Range: 250kHz - 850kHz; Number of Outputs: 2; DatasheetVersion: Rev. A; PackageVersion: Rev. B, 03/2012; PackageReference: GN24; PackageDescription: 24-Pin Plastic SSOP , Body 8.5 x 3.9 mm, Pitch 0.635 mm; Supplier 1: Digi-Key; Supplier Part Number 1: LTC3737EGN-ND; RoHS: FALSE; Mounting Technology: Surface Mount; ComponentLink1Description: Manufacturer URL; ComponentLink1URL: http://www.linear.com/; ComponentLink2Description: Datasheet; ComponentLink2URL: http://cds.linear.com/docs/en/datasheet/3737fa.pdf; ComponentLink3Description: Package Specification; ComponentLink3URL: http://cds.linear.com/docs/en/packaging/05081641_B_GN24.pdf
footprint LT-GN-24_N (SOP, 24-Leads, Body 8.7x4mm, Pitch 0.635mm, IPC Medium Density)
footprint LT-GN-24_L (SOP, 24-Leads, Body 8.7x4mm, Pitch 0.635mm, IPC High Density)
footprint LT-GN-24_M (SOP, 24-Leads, Body 8.7x4mm, Pitch 0.635mm, IPC Low Density)
pins: 1 SW1(SENSE1-) (in) "Switch Node Connections to Inductors. Also the negative inputs to differential peak current comparators. Normally connected to the drains of the external P-Channel MOSFETs and the inductor when not using a sense resistor. (See Datasheet)", 2 IPRG1 (in) "Three-State Pins to Select Maximum Peak Sense Voltage Threshold. These pins select the maximum allowed voltage drop between the SENSE+ and SW pins (i.e., the maximum allowed drop across the external P-channel MOSFET) for (See Datasheet)", 3 VFB1 (in) "Each receives the remotely sensed feedback voltage for its controller from an external resistive divider across the output.", 4 ITH1 "Current Threshold and Error Amplifier Compensation Point. Nominal operating range on these pins is from 0.7V to 2V. The voltage on this pin determines the threshold of the main current comparator.", 5 IPRG2 (in) "Three-State Pins to Select Maximum Peak Sense Voltage Threshold. These pins select the maximum allowed voltage drop between the SENSE+ and SW pins (i.e., the maximum allowed drop across the external P-channel MOSFET) for (See Datasheet)", 6 PLLLPF (in) "Frequency Set/PLL Lowpass Filter. When synchronizing to an external clock, this pin serves as the lowpass filter point for the phase-locked loop. Normally, a series RC is connected between this pin and ground. When not (See Datasheet)", 7 SGND (power) "Signal Ground. This pin serves as the ground connection for most internal circuits.", 8 VIN (power) "Chip Signal Power Supply. This pin powers the entire chip except for the gate drivers. Externally filtering this pin with a lowpass RC network (e.g., R = 10ohm, C = 1uF) is suggested to minimize noise pickup, especially in (See Datasheet)", 9 TRACK (in) "Tracking Input for Second Controller. This pin allows the start-up of VOUT2 to “track” that of VOUT1 according to a ratio established by a resistor divider on VOUT1 connected to the TRACK pin. For one-to-one tracking(See Datasheet)", 10 VFB2 (in) "Each receives the remotely sensed feedback voltage for its controller from an external resistive divider across the output.", 11 ITH2 "Current Threshold and Error Amplifier Compensation Point. Nominal operating range on these pins is from 0.7V to 2V. The voltage on this pin determines the threshold of the main current comparator.", 12 PGOOD (oc) "Power Good Output Voltage Monitor Open-Drain Logic Output. This pin is pulled to ground when the voltage on either feedback pin (VFB1, VFB2) is not within +/-13.3% of its nominal set point.", 13 SW2(SENSE2-) (in) "Switch Node Connections to Inductors. Also the negative inputs to differential peak current comparators. Normally connected to the drains of the external P-Channel MOSFETs and the inductor when not using a sense resistor. (See Datasheet)", 14 SENSE2+ (in) "Positive Inputs to Differential Current Comparators. Normally connected to the sources of the external P-channel MOSFETs.", 15 PVIN2 (power) "Powers of the Gate Drivers.", 16 NC "No Connect.", 17 RUN/SS (in) "Run Control Input and Optional External Soft-Start Input. Forcing this pin below 0.65V shuts down the chip (both channels). Driving this pin to VIN or releasing this pin enables the chip to start-up with the internal (See Datasheet)", 18 PGATE2 (out) "Gate Drives for External P-Channel MOSFETs. These pins have an output swing from PGND to SENSE+.", 19 PGND (power) "Power Ground. This pin serves as the ground connection for the gate drivers.", 20 PGATE1 (out) "Gate Drives for External P-Channel MOSFETs. These pins have an output swing from PGND to SENSE+.", 21 SYNC/MODE (in) "External Clock Synchronization and Burst Mode/Pulse Skipping Select. Applying a clock with frequency between 250kHz to 850kHz causes the internal oscillator to phase lock to the external clock, and disables Burst Mode (See Datasheet)", 22 NC "No Connect.", 23 PVIN1 (power) "Powers of the Gate Drivers.", 24 SENSE1+ (in) "Positive Inputs to Differential Current Comparators. Normally connected to the sources of the external P-channel MOSFETs."

## LTC3737EGN#PBF
designator U?
Dual 2-Phase, No Rsense DC/DC Controller with Output Tracking, 24-pin QFN (UF-24), 24-pin SOP (GN-24), -40 to 85 degC, Pb-Free; Manufacturer: Linear Technology; PartNumber: LTC3737EGN#PBF; Frequency Sync Range: 250kHz - 850kHz; Number of Outputs: 2; DatasheetVersion: Rev. A; PackageVersion: Rev. B, 03/2012; PackageReference: GN24; PackageDescription: 24-Pin Plastic SSOP , Body 8.5 x 3.9 mm, Pitch 0.635 mm; Supplier 1: Digi-Key; Supplier Part Number 1: LTC3737EGN#PBF-ND; Supplier 2: Newark; Supplier Part Number 2: 56M8347; RoHS: TRUE; Mounting Technology: Surface Mount; ComponentLink1Description: Manufacturer URL; ComponentLink1URL: http://www.linear.com/; ComponentLink2Description: Datasheet; ComponentLink2URL: http://cds.linear.com/docs/en/datasheet/3737fa.pdf; ComponentLink3Description: Package Specification; ComponentLink3URL: http://cds.linear.com/docs/en/packaging/05081641_B_GN24.pdf
footprint LT-GN-24_N (SOP, 24-Leads, Body 8.7x4mm, Pitch 0.635mm, IPC Medium Density)
footprint LT-GN-24_L (SOP, 24-Leads, Body 8.7x4mm, Pitch 0.635mm, IPC High Density)
footprint LT-GN-24_M (SOP, 24-Leads, Body 8.7x4mm, Pitch 0.635mm, IPC Low Density)
pins: 1 SW1(SENSE1-) (in) "Switch Node Connections to Inductors. Also the negative inputs to differential peak current comparators. Normally connected to the drains of the external P-Channel MOSFETs and the inductor when not using a sense resistor. (See Datasheet)", 2 IPRG1 (in) "Three-State Pins to Select Maximum Peak Sense Voltage Threshold. These pins select the maximum allowed voltage drop between the SENSE+ and SW pins (i.e., the maximum allowed drop across the external P-channel MOSFET) for (See Datasheet)", 3 VFB1 (in) "Each receives the remotely sensed feedback voltage for its controller from an external resistive divider across the output.", 4 ITH1 "Current Threshold and Error Amplifier Compensation Point. Nominal operating range on these pins is from 0.7V to 2V. The voltage on this pin determines the threshold of the main current comparator.", 5 IPRG2 (in) "Three-State Pins to Select Maximum Peak Sense Voltage Threshold. These pins select the maximum allowed voltage drop between the SENSE+ and SW pins (i.e., the maximum allowed drop across the external P-channel MOSFET) for (See Datasheet)", 6 PLLLPF (in) "Frequency Set/PLL Lowpass Filter. When synchronizing to an external clock, this pin serves as the lowpass filter point for the phase-locked loop. Normally, a series RC is connected between this pin and ground. When not (See Datasheet)", 7 SGND (power) "Signal Ground. This pin serves as the ground connection for most internal circuits.", 8 VIN (power) "Chip Signal Power Supply. This pin powers the entire chip except for the gate drivers. Externally filtering this pin with a lowpass RC network (e.g., R = 10ohm, C = 1uF) is suggested to minimize noise pickup, especially in (See Datasheet)", 9 TRACK (in) "Tracking Input for Second Controller. This pin allows the start-up of VOUT2 to “track” that of VOUT1 according to a ratio established by a resistor divider on VOUT1 connected to the TRACK pin. For one-to-one tracking(See Datasheet)", 10 VFB2 (in) "Each receives the remotely sensed feedback voltage for its controller from an external resistive divider across the output.", 11 ITH2 "Current Threshold and Error Amplifier Compensation Point. Nominal operating range on these pins is from 0.7V to 2V. The voltage on this pin determines the threshold of the main current comparator.", 12 PGOOD (oc) "Power Good Output Voltage Monitor Open-Drain Logic Output. This pin is pulled to ground when the voltage on either feedback pin (VFB1, VFB2) is not within +/-13.3% of its nominal set point.", 13 SW2(SENSE2-) (in) "Switch Node Connections to Inductors. Also the negative inputs to differential peak current comparators. Normally connected to the drains of the external P-Channel MOSFETs and the inductor when not using a sense resistor. (See Datasheet)", 14 SENSE2+ (in) "Positive Inputs to Differential Current Comparators. Normally connected to the sources of the external P-channel MOSFETs.", 15 PVIN2 (power) "Powers of the Gate Drivers.", 16 NC "No Connect.", 17 RUN/SS (in) "Run Control Input and Optional External Soft-Start Input. Forcing this pin below 0.65V shuts down the chip (both channels). Driving this pin to VIN or releasing this pin enables the chip to start-up with the internal (See Datasheet)", 18 PGATE2 (out) "Gate Drives for External P-Channel MOSFETs. These pins have an output swing from PGND to SENSE+.", 19 PGND (power) "Power Ground. This pin serves as the ground connection for the gate drivers.", 20 PGATE1 (out) "Gate Drives for External P-Channel MOSFETs. These pins have an output swing from PGND to SENSE+.", 21 SYNC/MODE (in) "External Clock Synchronization and Burst Mode/Pulse Skipping Select. Applying a clock with frequency between 250kHz to 850kHz causes the internal oscillator to phase lock to the external clock, and disables Burst Mode (See Datasheet)", 22 NC "No Connect.", 23 PVIN1 (power) "Powers of the Gate Drivers.", 24 SENSE1+ (in) "Positive Inputs to Differential Current Comparators. Normally connected to the sources of the external P-channel MOSFETs."